# Altium footprint library PCB - LEADLESS - SON - TI PVSON-10 3X3MM DRC.PCBLIB: 1 footprints
Each footprint in its own frame and in the unit in brackets; x right, y up, seen from the top. Pads: shape width x height; smd on the part's side, far side on the other; paste and mask are expansions set on the pad; w line width, h text height; cw(c..) or ccw(c..) is an arc to the next point about the centre after c.
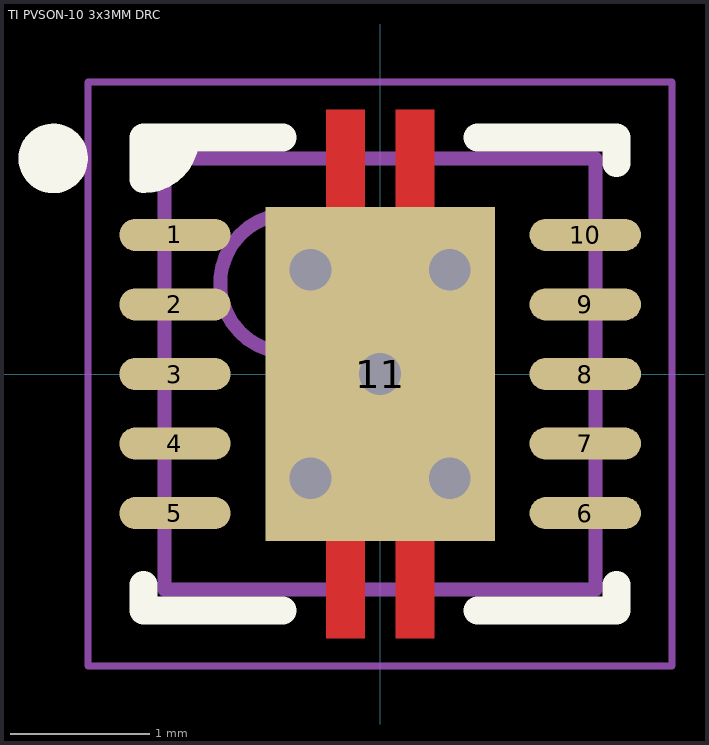
[diagram p0: the footprint, top view; thin cyan lines are the x and y axes]

## TI PVSON-10 3x3MM DRC [mm] "PVSON, 10-Leads, Body 3.00x3.00mm, Pitch 0.50mm, Thermal Pad 1.65x2.40mm, IPC Medium Density"
height 1
pads (11):
  oval 0.8x0.23 smd: 1(-1.475,1) 2(-1.475,0.5) 3(-1.475,0) 4(-1.475,-0.5) 5(-1.475,-1) 6(1.475,-1) 7(1.475,-0.5) 8(1.475,0) 9(1.475,0.5) 10(1.475,1)
  rect 1.65x2.4 smd paste-5: 11(0,0)
via 0.5,0.75 diameter 0.6 hole 0.3
via -0.5,0.75 diameter 0.6 hole 0.3
via -0.5,-0.75 diameter 0.6 hole 0.3
via 0.5,-0.75 diameter 0.6 hole 0.3
via 0,0 diameter 0.6 hole 0.3
Top Layer:
  rectangle: 0.11,1.1 0.39,1.9
  region: -0.11,1.9 -0.39,1.9 -0.39,1.1 -0.11,1.1
  region: -0.11,-1.1 -0.39,-1.1 -0.39,-1.9 -0.11,-1.9
  rectangle: 0.11,-1.9 0.39,-1.1
Top Overlay:
  circle w0.25: c-2.35,1.55 r0.125
  region: -1.7,1.7 -1.4,1.7 -1.7,1.4
  lines w0.2: -1.7,-1.515 -1.7,-1.7 -0.7,-1.7 ; -1.4,1.7 cw(c-1.7,1.7) -1.7,1.4 ; -0.7,1.7 -1.7,1.7 -1.7,1.4 ; 0.7,-1.7 1.7,-1.7 1.7,-1.515 ; 0.7,1.7 1.7,1.7 1.7,1.515 ; -1.7,1.4 -1.7,1.4
Top Paste:
  rectangle: -0.38,-1.88 -0.12,-1.38
  region: 0.38,-1.38 0.12,-1.38 0.12,-1.88 0.38,-1.88
  region: 0.38,1.88 0.12,1.88 0.12,1.38 0.38,1.38
  rectangle: -0.38,1.38 -0.12,1.88
  rectangle: -0.79,-1.06 -0.11,-0.11
  region: 0.79,-0.11 0.11,-0.11 0.11,-1.06 0.79,-1.06
  region: 0.79,1.06 0.11,1.06 0.11,0.11 0.79,0.11
  rectangle: -0.79,0.11 -0.11,1.06
Mechanical 13:
  circle w0.1: c-0.65,0.65 r0.5
  lines w0.1: -1.55,-1.55 1.55,-1.55 1.55,1.55 -1.55,1.55 -1.55,-1.55
Mechanical 15:
  lines w0.05: -2.1,-2.1 2.1,-2.1 2.1,2.1 -2.1,2.1 -2.1,-2.1
  lines w0.1: -0.5,0 0.5,0 ; 0,-0.5 0,0.5
3D body "TI - VSON-10 - DRC0010J.step": height 1, standoff 0, extent -1.501,-1.501 1.501,1.501